# Altium schematic symbol library DIODE - BAT41KFILM.SchLib: 1 symbol
Pins are listed as number, name and electrical type; pins without a type are passive.

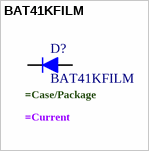
[diagram p0: symbol BAT41KFILM]

## BAT41KFILM
designator D?
Low Capacitance Small Signal 200 mA 1 V Schottky Diode Surface Mount - SOD-523; Manufacturer: STMicroelectronics; Average Rectified Current: 200mA; Value: 3pF; Element Configuration: Single; Forward Voltage: 450mV; Max Forward Surge Current (Ifsm): 1A; Max Junction Temperature (Tj): 150°C; Max Repetitive Reverse Voltage (Vrrm): 100V; Max Reverse Leakage Current: 100nA; Number of Elements: 1; Polarity: Standard; Supplier: Mouser; Supplier Part Number: 511-BAT41KFILM; Manufacturer Part Number: BAT41KFILM; RoHS: Compliant; Category: Schottky Diodes; Stock: 54328; Pricing: 1=0,34, 10=0,206, 50=0,206, 100=0,129, 1000=0,085, 10000=0,054 (USD); China RoHS: Compliant; Contact Plating: Tin; Current Rating: 200mA; Forward Current: 200mA; Height: 700µm; Lead Free: Lead Free; Length: 1.3mm; Lifecycle Status: Production; Max Operating Temperature: 150°C; Max Output current: 200mA; Max Reverse Voltage (DC): 100V; Max Surge Current: 1A; Min Operating Temperature: -65°C; Mounting Technology: Surface Mount; Pins: 2; Number of Terminals: 2; Output Current: 200mA; Packaging: Tape and Reel; Peak Non-Repetitive Surge Current: 1A; Peak Reverse Current: 100nA; Radiation Hardening: No; REACH SVHC: Yes; Reverse Standoff Voltage: 100V; Schedule B: 8541100070, 8541100070|8541100070|8541100070|8541100070|8541100070; Voltage Rating (DC): 100V; Width: 900µm; ComponentLink1URL: https://datasheet.octopart.com:443/BAT41KFILM-STMicroelectronics-datasheet-12514395.pdf?src-supplier=Upverter; ComponentLink1Description: https://datasheet.octopart.com:443/BAT41KFILM-STMicroelectronics-datasheet-12514395.pdf?src-supplier=Upverter; ComponentLink2URL: https://datasheet.octopart.com:443/BAT41KFILM-STMicroelectronics-datasheet-8379388.pdf?src-supplier=element14+APAC; ComponentLink2Description: https://datasheet.octopart.com:443/BAT41KFILM-STMicroelectronics-datasheet-8379388.pdf?src-supplier=element14+APAC; ComponentLink3URL: https://datasheet.octopart.com:443/BAT41KFILM-STMicroelectronics-datasheet-165583346.pdf?src-supplier=Newark; ComponentLink3Description: https://datasheet.octopart.com:443/BAT41KFILM-STMicroelectronics-datasheet-165583346.pdf?src-supplier=Newark; ComponentLink4URL: https://datasheet.octopart.com:443/BAT41KFILM-STMicroelectronics-datasheet-109502.pdf?src-supplier=Nu+Horizons; ComponentLink4Description: https://datasheet.octopart.com:443/BAT41KFILM-STMicroelectronics-datasheet-109502.pdf?src-supplier=Nu+Horizons; Supplier 1: Mouser; Supplier Part Number 1: 511-BAT41KFILM; .Current: =Current; .Case/Package: =Case/Package
footprint DSOD-523 - STMicroelectronics
pins: 1, 2